# EAGLE library part LTC3632 (library common)
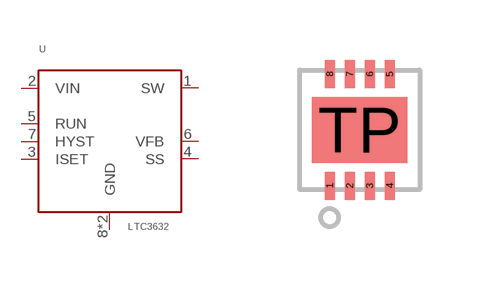
[diagram p35: symbol with the pads of DFN-3X3; footprint DFN-3X3]

Designator prefix U

## LTC3632  [DFN-3X3]
1  SW
2  VIN
3  ISET
4  SS
5  RUN
6  VFB
7  HYST
8  GND
TP  GND

## Footprint DFN-3X3 (pad centres in mm)
smd 0.25 x 0.7: 1 -0.75,-1.4; 2 -0.25,-1.4; 3 0.25,-1.4; 4 0.75,-1.4; 5 0.75,1.4; 6 0.25,1.4; 7 -0.25,1.4; 8 -0.75,1.4
smd 2.38 x 1.65: TP 0,0